# Altium schematic symbol library 2019-08-31_05-08-46.SchLib: 2 symbols
Pins are listed as number, name and electrical type; pins without a type are passive.

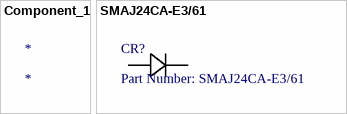
[diagram p0: symbols Component_1 to SMAJ24CA-E3/61]

## Component_1
designator *

## SMAJ24CA-E3/61
designator CR?, comment Part Number: SMAJ24CA-E3/61
No Description Available; Vendor: Vishay; Built_By: EMA_UL_Team; Type: DEV; Manufacturer_Part_Number: SMAJ24CA-E3/61; Copyright: Copyright (C) 2018 Accelerated Designs. All rights reserved; RefDes: RefDes; Value: Value
footprint DIODE_DO-214AC
pins: 1, 2